# Altium integrated library Linear Technology Power Management uModule Regulators.IntLib: 166 symbols (part 47 of 67)
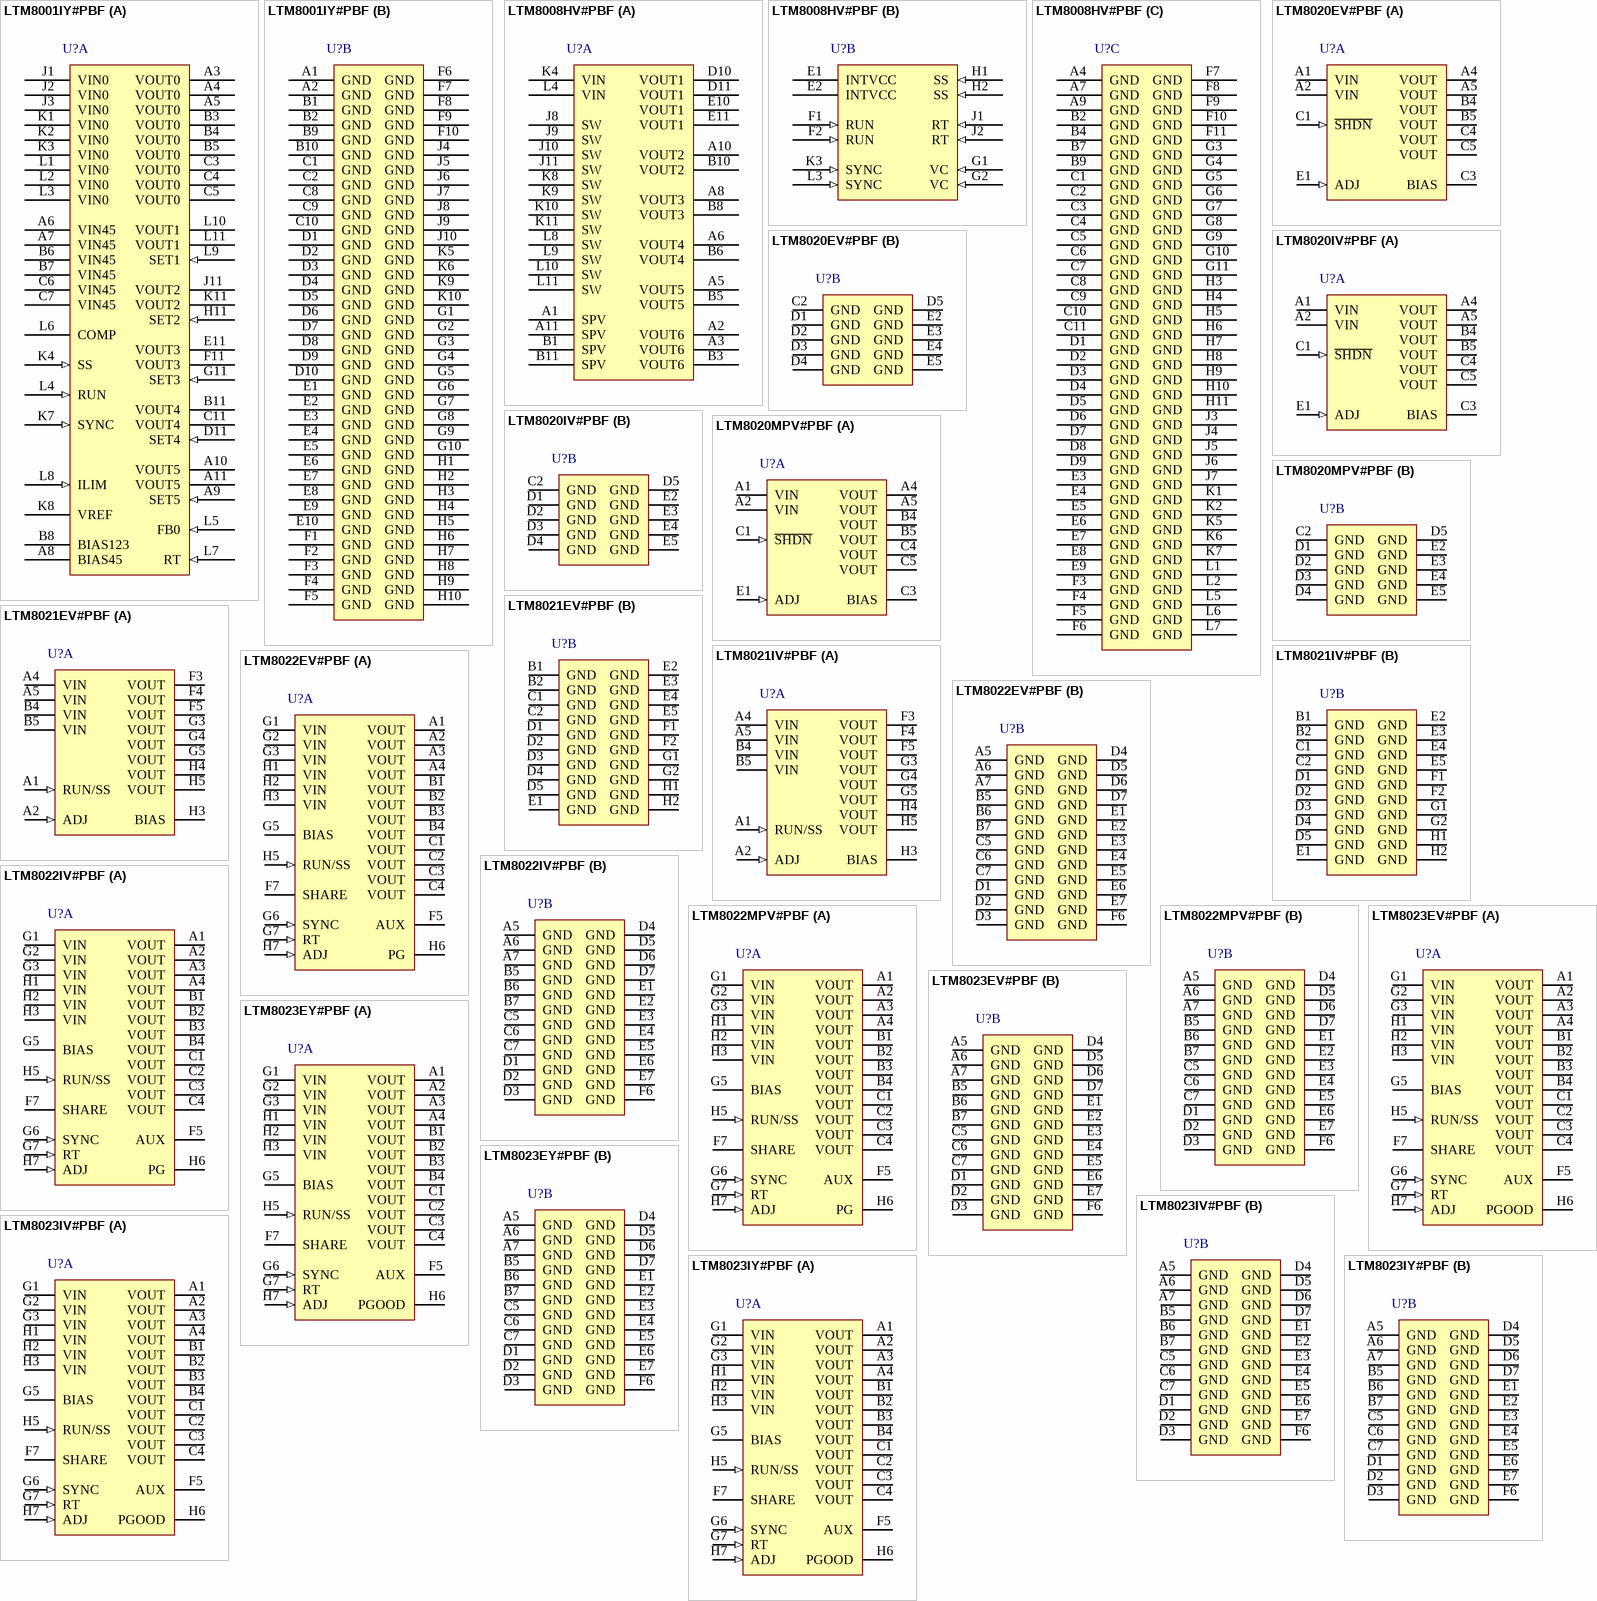
[diagram p73: symbols LTM8001IY#PBF to LTM8023IY#PBF]

## LTM8001IY#PBF
designator U?
36 VIN, 5 A uModule Regulator with 5-Output Configurable LDO Array, 121-pin BGA, -40 to 125 degC, Pb-Free, Tray; Manufacturer: Linear Technology; PartNumber: LTM8001IY#PBF; Extended Temp: E, I; Frequency Adjust Range: Up to 1MHz; Frequency(kHz): 1000; Ishutdown(uA): 0.1; Isupply(mA): 26; Number of Outputs: 6; Output Current(A): 5; Synchronous: no; Topology: Buck; Vin Max(V): 36; Vout Max(V): 24; Vout Min(V): 1.2; PackageVersion: Rev. A, 01/2013; PackageReference: BGA-121; PackageDescription: 121-Ball BGA, Body 15 x 15 mm, Pitch 1.27 mm; Supplier 1: Digi-Key; Supplier Part Number 1: LTM8001IY#PBF-ND; Supplier 2: Newark; Supplier Part Number 2: 71W8530; Frequency Sync Range: Up to 1MHz; Packing: Tray; RoHS: TRUE; Switch Current(A): 5; Tracking: no; Vin Min(V): 6; Mounting Technology: Surface Mount; Code_JEDEC: MS-028; ComponentLink1Description: Manufacturer URL; ComponentLink1URL: http://www.linear.com/; ComponentLink2Description: Datasheet; ComponentLink2URL: http://cds.linear.com/docs/en/datasheet/8001f.pdf; ComponentLink3Description: Package Specification; ComponentLink3URL: http://cds.linear.com/docs/en/packaging/05081923_A_bga121.pdf
footprint LT-BGA-121-15000X15000X3420 (BGA, 121-Balls, Body 15x15mm, Pitch 1.27mm)
part A pins: A3 VOUT0 (power) "Switching Power Converter Output Pins. Apply the output filter capacitor and the output load between these pins and the GND pins. In most cases, an output capacitance made up of a combination of ceramic and electrolytic (See Datasheet)", A4 VOUT0 (power) "Switching Power Converter Output Pins. Apply the output filter capacitor and the output load between these pins and the GND pins. In most cases, an output capacitance made up of a combination of ceramic and electrolytic (See Datasheet)", A5 VOUT0 (power) "Switching Power Converter Output Pins. Apply the output filter capacitor and the output load between these pins and the GND pins. In most cases, an output capacitance made up of a combination of ceramic and electrolytic (See Datasheet)", A6 VIN45 (power) "Input to the LDOs connected to VOUT4 and VOUT5. It must be locally bypassed with a low ESR capacitor.", A7 VIN45 (power) "Input to the LDOs connected to VOUT4 and VOUT5. It must be locally bypassed with a low ESR capacitor.", A8 BIAS45 (power) "This pin is the supply pin for the control circuitry of the LDOs connected to VOUT4 and VOUT5. For the LDOs to regulate, this voltage must be more than 1.2V to 1.6V greater than the output voltage (see Dropout (See Datasheet)", A9 SET5 (in) "These pins set the regulation point for each LDO. A fixed current of 10uA flows out of this pin through a single external resistor, which programs the output voltage of the device. Output voltage range is zero to the (See Datasheet)", A10 VOUT5 (power) "These are the power outputs of the individual LDOs. There must be a minimum load current of 1mA or the output may not regulate. The internal LDOs are rated for positive voltages between their inputs and outputs. Avoid (See Datasheet)", A11 VOUT5 (power) "These are the power outputs of the individual LDOs. There must be a minimum load current of 1mA or the output may not regulate. The internal LDOs are rated for positive voltages between their inputs and outputs. Avoid (See Datasheet)", B3 VOUT0 (power) "Switching Power Converter Output Pins. Apply the output filter capacitor and the output load between these pins and the GND pins. In most cases, an output capacitance made up of a combination of ceramic and electrolytic (See Datasheet)", B4 VOUT0 (power) "Switching Power Converter Output Pins. Apply the output filter capacitor and the output load between these pins and the GND pins. In most cases, an output capacitance made up of a combination of ceramic and electrolytic (See Datasheet)", B5 VOUT0 (power) "Switching Power Converter Output Pins. Apply the output filter capacitor and the output load between these pins and the GND pins. In most cases, an output capacitance made up of a combination of ceramic and electrolytic (See Datasheet)", B6 VIN45 (power) "Input to the LDOs connected to VOUT4 and VOUT5. It must be locally bypassed with a low ESR capacitor.", B7 VIN45 (power) "Input to the LDOs connected to VOUT4 and VOUT5. It must be locally bypassed with a low ESR capacitor.", B8 BIAS123 (power) "This pin is the supply pin for the control circuitry of the LDOs connected to VOUT1-VOUT3. For the LDOs to regulate, this voltage must be more than 1.2V to 1.6V greater than the output voltage (see Dropout specifications).", B11 VOUT4 (power) "These are the power outputs of the individual LDOs. There must be a minimum load current of 1mA or the output may not regulate. The internal LDOs are rated for positive voltages between their inputs and outputs. Avoid (See Datasheet)", C3 VOUT0 (power) "Switching Power Converter Output Pins. Apply the output filter capacitor and the output load between these pins and the GND pins. In most cases, an output capacitance made up of a combination of ceramic and electrolytic (See Datasheet)", C4 VOUT0 (power) "Switching Power Converter Output Pins. Apply the output filter capacitor and the output load between these pins and the GND pins. In most cases, an output capacitance made up of a combination of ceramic and electrolytic (See Datasheet)", C5 VOUT0 (power) "Switching Power Converter Output Pins. Apply the output filter capacitor and the output load between these pins and the GND pins. In most cases, an output capacitance made up of a combination of ceramic and electrolytic (See Datasheet)", C6 VIN45 (power) "Input to the LDOs connected to VOUT4 and VOUT5. It must be locally bypassed with a low ESR capacitor.", C7 VIN45 (power) "Input to the LDOs connected to VOUT4 and VOUT5. It must be locally bypassed with a low ESR capacitor.", C11 VOUT4 (power) "These are the power outputs of the individual LDOs. There must be a minimum load current of 1mA or the output may not regulate. The internal LDOs are rated for positive voltages between their inputs and outputs. Avoid (See Datasheet)", D11 SET4 (in) "These pins set the regulation point for each LDO. A fixed current of 10uA flows out of this pin through a single external resistor, which programs the output voltage of the device. Output voltage range is zero to the (See Datasheet)", E11 VOUT3 (power) "These are the power outputs of the individual LDOs. There must be a minimum load current of 1mA or the output may not regulate. The internal LDOs are rated for positive voltages between their inputs and outputs. Avoid (See Datasheet)", F11 VOUT3 (power) "These are the power outputs of the individual LDOs. There must be a minimum load current of 1mA or the output may not regulate. The internal LDOs are rated for positive voltages between their inputs and outputs. Avoid (See Datasheet)", G11 SET3 (in) "These pins set the regulation point for each LDO. A fixed current of 10uA flows out of this pin through a single external resistor, which programs the output voltage of the device. Output voltage range is zero to the (See Datasheet)", H11 SET2 (in) "These pins set the regulation point for each LDO. A fixed current of 10uA flows out of this pin through a single external resistor, which programs the output voltage of the device. Output voltage range is zero to the (See Datasheet)", J1 VIN0 (power) "The VIN0 bank supplies current to the LTM8001’s internal regulator and to the internal power switches. This pin must be locally bypassed with an external, low ESR capacitor; see Table 1 for recommended values.", J2 VIN0 (power) "The VIN0 bank supplies current to the LTM8001’s internal regulator and to the internal power switches. This pin must be locally bypassed with an external, low ESR capacitor; see Table 1 for recommended values.", J3 VIN0 (power) "The VIN0 bank supplies current to the LTM8001’s internal regulator and to the internal power switches. This pin must be locally bypassed with an external, low ESR capacitor; see Table 1 for recommended values.", J11 VOUT2 (power) "These are the power outputs of the individual LDOs. There must be a minimum load current of 1mA or the output may not regulate. The internal LDOs are rated for positive voltages between their inputs and outputs. Avoid (See Datasheet)", K1 VIN0 (power) "The VIN0 bank supplies current to the LTM8001’s internal regulator and to the internal power switches. This pin must be locally bypassed with an external, low ESR capacitor; see Table 1 for recommended values.", K2 VIN0 (power) "The VIN0 bank supplies current to the LTM8001’s internal regulator and to the internal power switches. This pin must be locally bypassed with an external, low ESR capacitor; see Table 1 for recommended values.", K3 VIN0 (power) "The VIN0 bank supplies current to the LTM8001’s internal regulator and to the internal power switches. This pin must be locally bypassed with an external, low ESR capacitor; see Table 1 for recommended values.", K4 SS (in) "The Soft-Start Pin. Place an external capacitor to ground to limit the regulated current during start-up conditions. The soft-start pin has an 11uA charging current.", K7 SYNC (in) "Frequency Synchronization Pin. This pin allows the switching frequency to be synchronized to an external clock. The RT resistor should be chosen to operate the internal clock at 20% slower than the SYNC pulse frequency. This (See Datasheet)", K8 VREF "Buffered 2V Reference Capable of 0.5mA Drive.", K11 VOUT2 (power) "These are the power outputs of the individual LDOs. There must be a minimum load current of 1mA or the output may not regulate. The internal LDOs are rated for positive voltages between their inputs and outputs. Avoid (See Datasheet)", L1 VIN0 (power) "The VIN0 bank supplies current to the LTM8001’s internal regulator and to the internal power switches. This pin must be locally bypassed with an external, low ESR capacitor; see Table 1 for recommended values.", L2 VIN0 (power) "The VIN0 bank supplies current to the LTM8001’s internal regulator and to the internal power switches. This pin must be locally bypassed with an external, low ESR capacitor; see Table 1 for recommended values.", L3 VIN0 (power) "The VIN0 bank supplies current to the LTM8001’s internal regulator and to the internal power switches. This pin must be locally bypassed with an external, low ESR capacitor; see Table 1 for recommended values.", L4 RUN (in) "The RUN pin acts as an enable pin and turns on the internal circuitry. The pin does not have any pull up or pull down, requiring a voltage bias for normal part operation. The RUN pin is internally clamped, so it may be (See Datasheet)", L5 FB0 (in) "The LTM8001 regulates its FB0 pin to 1.19V. Connect the adjust resistor from this pin to ground.", L6 COMP "Compensation Pin. This pin is generally not used. The LTM8001 is internally compensated, but some rare situations may arise that require a modification to the control loop. This pin connects directly to the input PWM (See Datasheet)", L7 RT (in) "The RT pin is used to program the switching frequency of the LTM8001 by connecting a resistor from this pin to ground. The Applications Information section of the data sheet includes a table to determine the recommended (See Datasheet)", L8 ILIM (in) "The ILIM pin reduces the maximum regulated output current of the LTM8001. The maximum control voltage range is 1.5V. ILIM voltages above 1.5V have little or no effect. If this function is not used, tie this pin to VREF.", L9 SET1 (in) "These pins set the regulation point for each LDO. A fixed current of 10uA flows out of this pin through a single external resistor, which programs the output voltage of the device. Output voltage range is zero to the (See Datasheet)", L10 VOUT1 (power) "These are the power outputs of the individual LDOs. There must be a minimum load current of 1mA or the output may not regulate. The internal LDOs are rated for positive voltages between their inputs and outputs. Avoid (See Datasheet)", L11 VOUT1 (power) "These are the power outputs of the individual LDOs. There must be a minimum load current of 1mA or the output may not regulate. The internal LDOs are rated for positive voltages between their inputs and outputs. Avoid (See Datasheet)"
part B pins: A1 GND (power) "Tie these GND pins to a local ground plane below the LTM8001 and the circuit components. In most applications, the bulk of the heat flow out of the LTM8001 is through these pads, so the printed circuit design has a large (See Datasheet)", A2 GND (power) "Tie these GND pins to a local ground plane below the LTM8001 and the circuit components. In most applications, the bulk of the heat flow out of the LTM8001 is through these pads, so the printed circuit design has a large (See Datasheet)", B1 GND (power) "Tie these GND pins to a local ground plane below the LTM8001 and the circuit components. In most applications, the bulk of the heat flow out of the LTM8001 is through these pads, so the printed circuit design has a large (See Datasheet)", B2 GND (power) "Tie these GND pins to a local ground plane below the LTM8001 and the circuit components. In most applications, the bulk of the heat flow out of the LTM8001 is through these pads, so the printed circuit design has a large (See Datasheet)", B9 GND (power) "Tie these GND pins to a local ground plane below the LTM8001 and the circuit components. In most applications, the bulk of the heat flow out of the LTM8001 is through these pads, so the printed circuit design has a large (See Datasheet)", B10 GND (power) "Tie these GND pins to a local ground plane below the LTM8001 and the circuit components. In most applications, the bulk of the heat flow out of the LTM8001 is through these pads, so the printed circuit design has a large (See Datasheet)", C1 GND (power) "Tie these GND pins to a local ground plane below the LTM8001 and the circuit components. In most applications, the bulk of the heat flow out of the LTM8001 is through these pads, so the printed circuit design has a large (See Datasheet)", C2 GND (power) "Tie these GND pins to a local ground plane below the LTM8001 and the circuit components. In most applications, the bulk of the heat flow out of the LTM8001 is through these pads, so the printed circuit design has a large (See Datasheet)", C8 GND (power) "Tie these GND pins to a local ground plane below the LTM8001 and the circuit components. In most applications, the bulk of the heat flow out of the LTM8001 is through these pads, so the printed circuit design has a large (See Datasheet)", C9 GND (power) "Tie these GND pins to a local ground plane below the LTM8001 and the circuit components. In most applications, the bulk of the heat flow out of the LTM8001 is through these pads, so the printed circuit design has a large (See Datasheet)", C10 GND (power) "Tie these GND pins to a local ground plane below the LTM8001 and the circuit components. In most applications, the bulk of the heat flow out of the LTM8001 is through these pads, so the printed circuit design has a large (See Datasheet)", D1 GND (power) "Tie these GND pins to a local ground plane below the LTM8001 and the circuit components. In most applications, the bulk of the heat flow out of the LTM8001 is through these pads, so the printed circuit design has a large (See Datasheet)", D2 GND (power) "Tie these GND pins to a local ground plane below the LTM8001 and the circuit components. In most applications, the bulk of the heat flow out of the LTM8001 is through these pads, so the printed circuit design has a large (See Datasheet)", D3 GND (power) "Tie these GND pins to a local ground plane below the LTM8001 and the circuit components. In most applications, the bulk of the heat flow out of the LTM8001 is through these pads, so the printed circuit design has a large (See Datasheet)", D4 GND (power) "Tie these GND pins to a local ground plane below the LTM8001 and the circuit components. In most applications, the bulk of the heat flow out of the LTM8001 is through these pads, so the printed circuit design has a large (See Datasheet)", D5 GND (power) "Tie these GND pins to a local ground plane below the LTM8001 and the circuit components. In most applications, the bulk of the heat flow out of the LTM8001 is through these pads, so the printed circuit design has a large (See Datasheet)", D6 GND (power) "Tie these GND pins to a local ground plane below the LTM8001 and the circuit components. In most applications, the bulk of the heat flow out of the LTM8001 is through these pads, so the printed circuit design has a large (See Datasheet)", D7 GND (power) "Tie these GND pins to a local ground plane below the LTM8001 and the circuit components. In most applications, the bulk of the heat flow out of the LTM8001 is through these pads, so the printed circuit design has a large (See Datasheet)", D8 GND (power) "Tie these GND pins to a local ground plane below the LTM8001 and the circuit components. In most applications, the bulk of the heat flow out of the LTM8001 is through these pads, so the printed circuit design has a large (See Datasheet)", D9 GND (power) "Tie these GND pins to a local ground plane below the LTM8001 and the circuit components. In most applications, the bulk of the heat flow out of the LTM8001 is through these pads, so the printed circuit design has a large (See Datasheet)", D10 GND (power) "Tie these GND pins to a local ground plane below the LTM8001 and the circuit components. In most applications, the bulk of the heat flow out of the LTM8001 is through these pads, so the printed circuit design has a large (See Datasheet)", E1 GND (power) "Tie these GND pins to a local ground plane below the LTM8001 and the circuit components. In most applications, the bulk of the heat flow out of the LTM8001 is through these pads, so the printed circuit design has a large (See Datasheet)", E2 GND (power) "Tie these GND pins to a local ground plane below the LTM8001 and the circuit components. In most applications, the bulk of the heat flow out of the LTM8001 is through these pads, so the printed circuit design has a large (See Datasheet)", E3 GND (power) "Tie these GND pins to a local ground plane below the LTM8001 and the circuit components. In most applications, the bulk of the heat flow out of the LTM8001 is through these pads, so the printed circuit design has a large (See Datasheet)", E4 GND (power) "Tie these GND pins to a local ground plane below the LTM8001 and the circuit components. In most applications, the bulk of the heat flow out of the LTM8001 is through these pads, so the printed circuit design has a large (See Datasheet)", E5 GND (power) "Tie these GND pins to a local ground plane below the LTM8001 and the circuit components. In most applications, the bulk of the heat flow out of the LTM8001 is through these pads, so the printed circuit design has a large (See Datasheet)", E6 GND (power) "Tie these GND pins to a local ground plane below the LTM8001 and the circuit components. In most applications, the bulk of the heat flow out of the LTM8001 is through these pads, so the printed circuit design has a large (See Datasheet)", E7 GND (power) "Tie these GND pins to a local ground plane below the LTM8001 and the circuit components. In most applications, the bulk of the heat flow out of the LTM8001 is through these pads, so the printed circuit design has a large (See Datasheet)", E8 GND (power) "Tie these GND pins to a local ground plane below the LTM8001 and the circuit components. In most applications, the bulk of the heat flow out of the LTM8001 is through these pads, so the printed circuit design has a large (See Datasheet)", E9 GND (power) "Tie these GND pins to a local ground plane below the LTM8001 and the circuit components. In most applications, the bulk of the heat flow out of the LTM8001 is through these pads, so the printed circuit design has a large (See Datasheet)", E10 GND (power) "Tie these GND pins to a local ground plane below the LTM8001 and the circuit components. In most applications, the bulk of the heat flow out of the LTM8001 is through these pads, so the printed circuit design has a large (See Datasheet)", F1 GND (power) "Tie these GND pins to a local ground plane below the LTM8001 and the circuit components. In most applications, the bulk of the heat flow out of the LTM8001 is through these pads, so the printed circuit design has a large (See Datasheet)", F2 GND (power) "Tie these GND pins to a local ground plane below the LTM8001 and the circuit components. In most applications, the bulk of the heat flow out of the LTM8001 is through these pads, so the printed circuit design has a large (See Datasheet)", F3 GND (power) "Tie these GND pins to a local ground plane below the LTM8001 and the circuit components. In most applications, the bulk of the heat flow out of the LTM8001 is through these pads, so the printed circuit design has a large (See Datasheet)", F4 GND (power) "Tie these GND pins to a local ground plane below the LTM8001 and the circuit components. In most applications, the bulk of the heat flow out of the LTM8001 is through these pads, so the printed circuit design has a large (See Datasheet)", F5 GND (power) "Tie these GND pins to a local ground plane below the LTM8001 and the circuit components. In most applications, the bulk of the heat flow out of the LTM8001 is through these pads, so the printed circuit design has a large (See Datasheet)", F6 GND (power) "Tie these GND pins to a local ground plane below the LTM8001 and the circuit components. In most applications, the bulk of the heat flow out of the LTM8001 is through these pads, so the printed circuit design has a large (See Datasheet)", F7 GND (power) "Tie these GND pins to a local ground plane below the LTM8001 and the circuit components. In most applications, the bulk of the heat flow out of the LTM8001 is through these pads, so the printed circuit design has a large (See Datasheet)", F8 GND (power) "Tie these GND pins to a local ground plane below the LTM8001 and the circuit components. In most applications, the bulk of the heat flow out of the LTM8001 is through these pads, so the printed circuit design has a large (See Datasheet)", F9 GND (power) "Tie these GND pins to a local ground plane below the LTM8001 and the circuit components. In most applications, the bulk of the heat flow out of the LTM8001 is through these pads, so the printed circuit design has a large (See Datasheet)", F10 GND (power) "Tie these GND pins to a local ground plane below the LTM8001 and the circuit components. In most applications, the bulk of the heat flow out of the LTM8001 is through these pads, so the printed circuit design has a large (See Datasheet)", G1 GND (power) "Tie these GND pins to a local ground plane below the LTM8001 and the circuit components. In most applications, the bulk of the heat flow out of the LTM8001 is through these pads, so the printed circuit design has a large (See Datasheet)", G2 GND (power) "Tie these GND pins to a local ground plane below the LTM8001 and the circuit components. In most applications, the bulk of the heat flow out of the LTM8001 is through these pads, so the printed circuit design has a large (See Datasheet)", G3 GND (power) "Tie these GND pins to a local ground plane below the LTM8001 and the circuit components. In most applications, the bulk of the heat flow out of the LTM8001 is through these pads, so the printed circuit design has a large (See Datasheet)", G4 GND (power) "Tie these GND pins to a local ground plane below the LTM8001 and the circuit components. In most applications, the bulk of the heat flow out of the LTM8001 is through these pads, so the printed circuit design has a large (See Datasheet)", G5 GND (power) "Tie these GND pins to a local ground plane below the LTM8001 and the circuit components. In most applications, the bulk of the heat flow out of the LTM8001 is through these pads, so the printed circuit design has a large (See Datasheet)", G6 GND (power) "Tie these GND pins to a local ground plane below the LTM8001 and the circuit components. In most applications, the bulk of the heat flow out of the LTM8001 is through these pads, so the printed circuit design has a large (See Datasheet)", G7 GND (power) "Tie these GND pins to a local ground plane below the LTM8001 and the circuit components. In most applications, the bulk of the heat flow out of the LTM8001 is through these pads, so the printed circuit design has a large (See Datasheet)", G8 GND (power) "Tie these GND pins to a local ground plane below the LTM8001 and the circuit components. In most applications, the bulk of the heat flow out of the LTM8001 is through these pads, so the printed circuit design has a large (See Datasheet)", G9 GND (power) "Tie these GND pins to a local ground plane below the LTM8001 and the circuit components. In most applications, the bulk of the heat flow out of the LTM8001 is through these pads, so the printed circuit design has a large (See Datasheet)", G10 GND (power) "Tie these GND pins to a local ground plane below the LTM8001 and the circuit components. In most applications, the bulk of the heat flow out of the LTM8001 is through these pads, so the printed circuit design has a large (See Datasheet)", H1 GND (power) "Tie these GND pins to a local ground plane below the LTM8001 and the circuit components. In most applications, the bulk of the heat flow out of the LTM8001 is through these pads, so the printed circuit design has a large (See Datasheet)", H2 GND (power) "Tie these GND pins to a local ground plane below the LTM8001 and the circuit components. In most applications, the bulk of the heat flow out of the LTM8001 is through these pads, so the printed circuit design has a large (See Datasheet)", H3 GND (power) "Tie these GND pins to a local ground plane below the LTM8001 and the circuit components. In most applications, the bulk of the heat flow out of the LTM8001 is through these pads, so the printed circuit design has a large (See Datasheet)", H4 GND (power) "Tie these GND pins to a local ground plane below the LTM8001 and the circuit components. In most applications, the bulk of the heat flow out of the LTM8001 is through these pads, so the printed circuit design has a large (See Datasheet)", H5 GND (power) "Tie these GND pins to a local ground plane below the LTM8001 and the circuit components. In most applications, the bulk of the heat flow out of the LTM8001 is through these pads, so the printed circuit design has a large (See Datasheet)", H6 GND (power) "Tie these GND pins to a local ground plane below the LTM8001 and the circuit components. In most applications, the bulk of the heat flow out of the LTM8001 is through these pads, so the printed circuit design has a large (See Datasheet)", H7 GND (power) "Tie these GND pins to a local ground plane below the LTM8001 and the circuit components. In most applications, the bulk of the heat flow out of the LTM8001 is through these pads, so the printed circuit design has a large (See Datasheet)", H8 GND (power) "Tie these GND pins to a local ground plane below the LTM8001 and the circuit components. In most applications, the bulk of the heat flow out of the LTM8001 is through these pads, so the printed circuit design has a large (See Datasheet)", H9 GND (power) "Tie these GND pins to a local ground plane below the LTM8001 and the circuit components. In most applications, the bulk of the heat flow out of the LTM8001 is through these pads, so the printed circuit design has a large (See Datasheet)", H10 GND (power) "Tie these GND pins to a local ground plane below the LTM8001 and the circuit components. In most applications, the bulk of the heat flow out of the LTM8001 is through these pads, so the printed circuit design has a large (See Datasheet)", J4 GND (power) "Tie these GND pins to a local ground plane below the LTM8001 and the circuit components. In most applications, the bulk of the heat flow out of the LTM8001 is through these pads, so the printed circuit design has a large (See Datasheet)", J5 GND (power) "Tie these GND pins to a local ground plane below the LTM8001 and the circuit components. In most applications, the bulk of the heat flow out of the LTM8001 is through these pads, so the printed circuit design has a large (See Datasheet)", J6 GND (power) "Tie these GND pins to a local ground plane below the LTM8001 and the circuit components. In most applications, the bulk of the heat flow out of the LTM8001 is through these pads, so the printed circuit design has a large (See Datasheet)", J7 GND (power) "Tie these GND pins to a local ground plane below the LTM8001 and the circuit components. In most applications, the bulk of the heat flow out of the LTM8001 is through these pads, so the printed circuit design has a large (See Datasheet)", J8 GND (power) "Tie these GND pins to a local ground plane below the LTM8001 and the circuit components. In most applications, the bulk of the heat flow out of the LTM8001 is through these pads, so the printed circuit design has a large (See Datasheet)", J9 GND (power) "Tie these GND pins to a local ground plane below the LTM8001 and the circuit components. In most applications, the bulk of the heat flow out of the LTM8001 is through these pads, so the printed circuit design has a large (See Datasheet)", J10 GND (power) "Tie these GND pins to a local ground plane below the LTM8001 and the circuit components. In most applications, the bulk of the heat flow out of the LTM8001 is through these pads, so the printed circuit design has a large (See Datasheet)", K5 GND (power) "Tie these GND pins to a local ground plane below the LTM8001 and the circuit components. In most applications, the bulk of the heat flow out of the LTM8001 is through these pads, so the printed circuit design has a large (See Datasheet)", K6 GND (power) "Tie these GND pins to a local ground plane below the LTM8001 and the circuit components. In most applications, the bulk of the heat flow out of the LTM8001 is through these pads, so the printed circuit design has a large (See Datasheet)", K9 GND (power) "Tie these GND pins to a local ground plane below the LTM8001 and the circuit components. In most applications, the bulk of the heat flow out of the LTM8001 is through these pads, so the printed circuit design has a large (See Datasheet)", K10 GND (power) "Tie these GND pins to a local ground plane below the LTM8001 and the circuit components. In most applications, the bulk of the heat flow out of the LTM8001 is through these pads, so the printed circuit design has a large (See Datasheet)"